# Altium footprint library BB.GW.001.00.00.PcbLib: 94 footprints (part 6 of 6)
Each footprint in its own frame and in the unit in brackets; x right, y up, seen from the top. Pads: shape width x height; smd on the part's side, far side on the other; paste and mask are expansions set on the pad; w line width, h text height; cw(c..) or ccw(c..) is an arc to the next point about the centre after c.
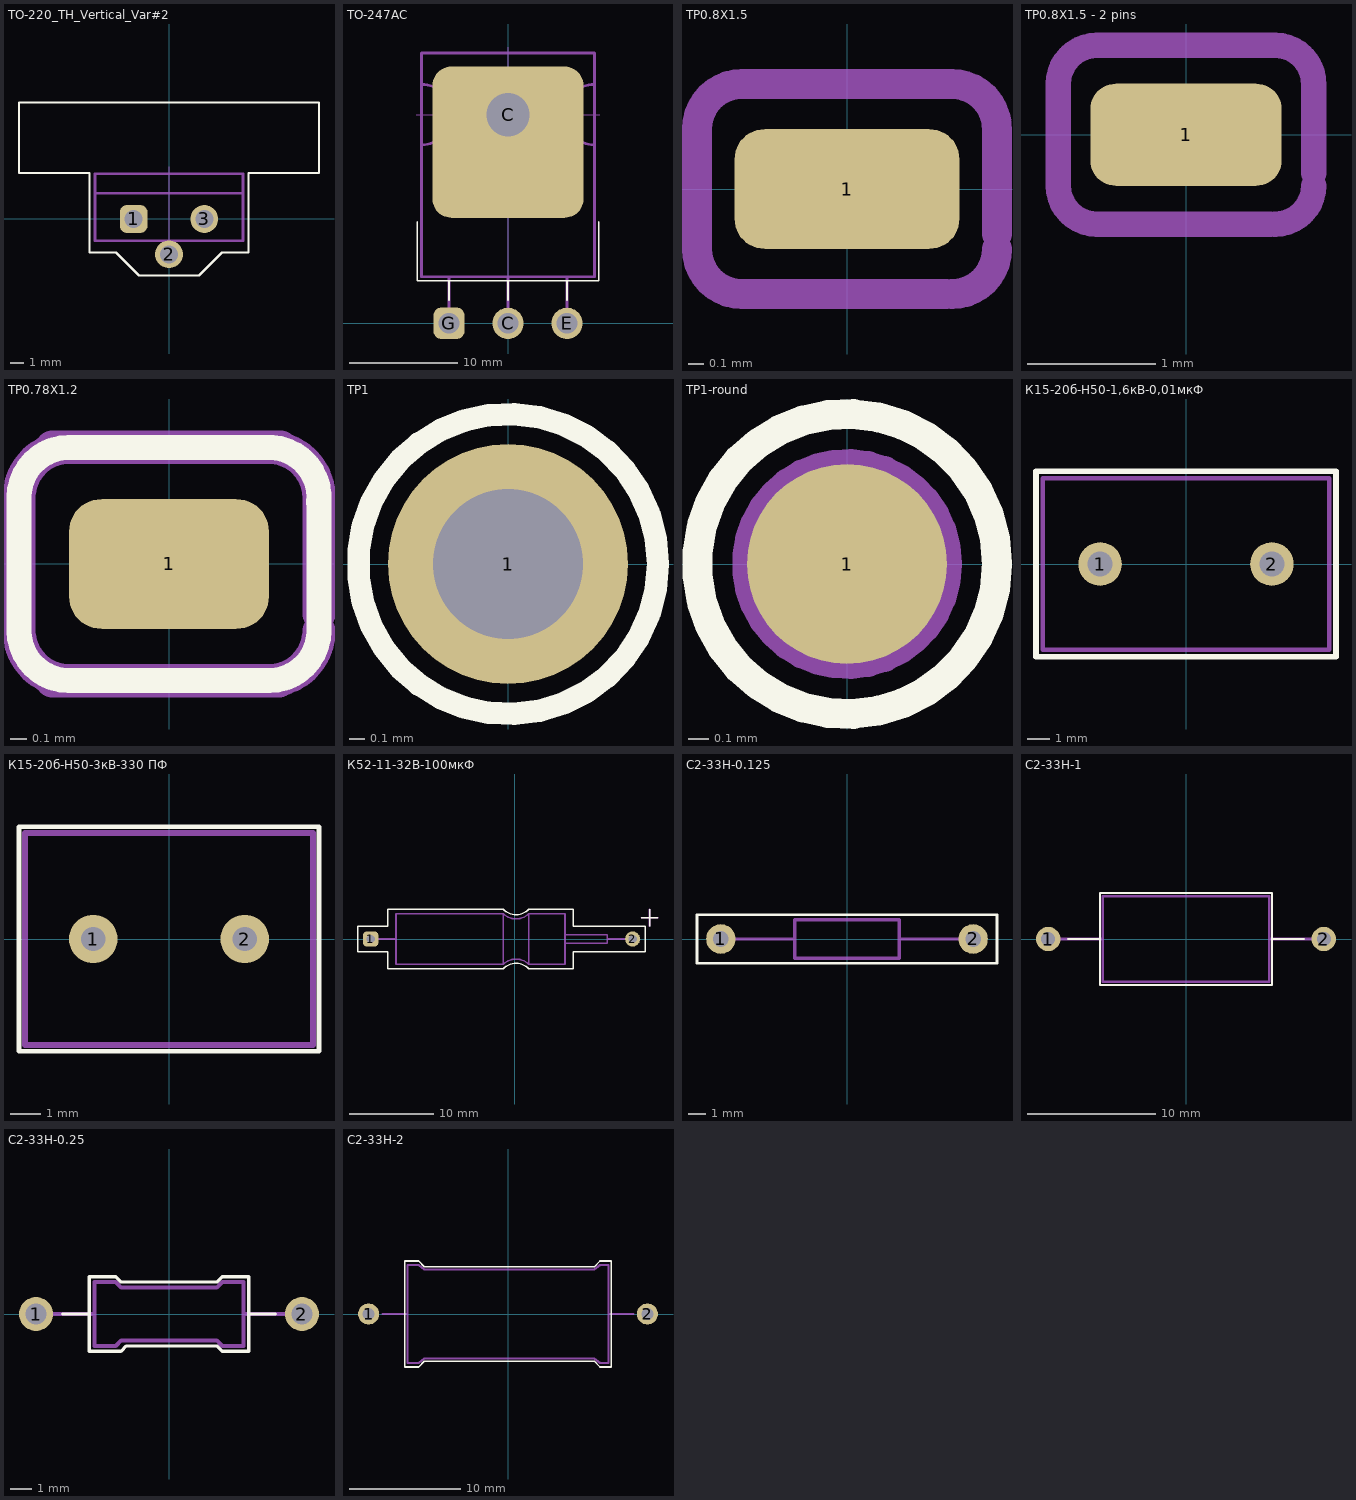
[diagram p5: the footprints below, top view; thin cyan lines are the x and y axes]

## TO-220_TH_Vertical_Var#2 [mm] "Transistor outline, TO-220, TH с разнесенными выводами, под установку на радиатор"
height 24
pads (3):
  rrect50% 2x2 hole 1.3: 1(-2.54,0)
  round 2 hole 1.3: 2(0,-2.54) 3(2.54,0)
Top Overlay:
  lines w0.15: -10.795,3.302 -10.795,8.382 10.795,8.382 10.795,3.302 5.715,3.302 5.715,-2.413 3.81,-2.413 2.159,-4.064 -2.159,-4.064 -3.81,-2.413 -5.715,-2.413 -5.715,3.302 -10.795,3.302
TopAsy:
  lines w0.025: 0,-2.08 0,3.762
  lines w0.2: -5.334,1.858 5.334,1.858 ; -5.334,-1.572 5.334,-1.572 5.334,3.258 -5.334,3.258 -5.334,-1.572
3D body "TO-220_TH_Vertical_var#2.STEP": height 20.74, standoff -3.3, extent -5.27,-2.794 5.27,3.226

## TO-247AC [mm]
height 5.4
pads (4):
  round 2.9 hole 1.9: C(0,0) E(5.46,0)
  rrect25% 14x14 hole 4 copper offset 0,-2.54: C(0,19.304)
  rrect50% 2.9x2.9 hole 1.9: G(-5.46,0)
Top Overlay:
  lines w0.15: -8.382,9.398 -8.382,3.937 8.382,3.937 8.382,9.398 ; -5.461,2.159 -5.461,3.937 ; -0.001,2.159 -0.001,3.937 ; 5.459,2.159 5.459,3.937
TopAsy:
  circle w0.254: c0,19.304 r1.905
  lines w0.025: -8.509,19.304 8.509,19.304 ; 0,-0.508 0,25.527
  lines w0.254: -8.001,16.51 ccw(c-8.001,19.304) -8.001,22.098 ; -5.46,0 -5.46,4.318 ; 0,0 0,4.318 ; 5.46,0 5.46,4.318 ; 8.001,16.51 cw(c8.001,19.304) 8.001,22.098 ; -8.001,4.318 -8.001,25.019 8.001,25.019 8.001,4.318 -8.001,4.318

## TP0.8X1.5 [mm]
pads (1):
  rrect50% 1.5x0.8 smd paste-25.4: 1(0,0)
TopAsy:
  lines w0.2: 0.66,-0.7 -0.7,-0.7 cw(c-0.7,-0.4) -1,-0.4 -1,0.4 cw(c-0.7,0.4) -0.7,0.7 0.67,0.7 ; 0.7,-0.7 ccw(c0.7,-0.4) 1,-0.4 ; 0.7,0.7 cw(c0.7,0.4) 1,0.39 ; 1,-0.3 1,0.4

## TP0.8X1.5 - 2 pins [mm]
pads (2):
  rrect50% 1.5x0.8 smd paste-25.4: 1(0,0)
  round 0 all layers, no hole: 2(-0.1,-1.6)
TopAsy:
  lines w0.2: 0.66,-0.7 -0.7,-0.7 cw(c-0.7,-0.4) -1,-0.4 -1,0.4 cw(c-0.7,0.4) -0.7,0.7 0.67,0.7 ; 0.7,-0.7 ccw(c0.7,-0.4) 1,-0.4 ; 0.7,0.7 cw(c0.7,0.4) 1,0.39 ; 1,-0.3 1,0.4

## TP0.78X1.2 [mm]
pads (1):
  rrect50% 1.2x0.78 smd paste-25.4: 1(0,0)
Top Overlay:
  lines w0.15: 0.57,-0.7 -0.6,-0.7 cw(c-0.6,-0.4) -0.9,-0.4 -0.9,0.4 cw(c-0.6,0.4) -0.6,0.7 0.6,0.7 ; 0.57,0.699 cw(c0.6,0.4) 0.898,0.369 ; 0.6,-0.7 ccw(c0.6,-0.4) 0.9,-0.4 0.9,0.4
TopAsy:
  lines w0.2: -0.7,-0.7 0.66,-0.7 ; -0.7,0.7 0.67,0.7 ; -0.6,-0.7 cw(c-0.6,-0.4) -0.9,-0.4 -0.9,0.4 cw(c-0.6,0.4) -0.6,0.7 ; 0.6,-0.7 ccw(c0.6,-0.4) 0.9,-0.4 ; 0.6,0.7 cw(c0.6,0.4) 0.9,0.39 ; 0.9,-0.3 0.9,0.4

## TP1 [mm] "Test point 1x1.6"
pads (1):
  round 1.6 hole 1 paste+0: 1(0,0)
Top Overlay:
  circle w0.15: c0,0 r1
TopAsy:
  circle w0.15: c0,0 r0.5

## TP1-round [mm] "Test point 1x1.6"
pads (1):
  round 1 smd paste+0: 1(0,0)
Top Overlay:
  circle w0.15: c0,0 r0.75
TopAsy:
  circle w0.15: c0,0 r0.5

## К15-20б-Н50-1,6кВ-0,01мкФ [mm] "HTD; body:12,5х9,8х7,5mm; Конденсаторы керамические округленные с однонаправленными выводами"
height 17.8
pads (2):
  round 1.9 hole 1.1 paste+0: 1(-3.75,0) 2(3.75,0)
Top Overlay:
  lines w0.254: -6.55,-4.05 -6.55,4.05 6.55,4.05 6.55,-4.05 -6.55,-4.05
TopAsy:
  lines w0.2: -6.25,-3.75 6.25,-3.75 6.25,3.75 -6.25,3.75 -6.25,-3.75
3D body "Конденсатор керамический _ К15-20б - Н50 - 1,6 кВ - 0,01 мкФ.stp": height 17.8, standoff -3, extent -6.25,-3.775 6.25,3.725

## К15-20б-Н50-3кВ-330 ПФ [mm] "HTD; body:9,5х7,5х7mm; Конденсаторы керамические округленные с однонаправленными выводами"
height 15.5
pads (2):
  round 1.6 hole 0.8 paste+0: 1(-2.5,0) 2(2.5,0)
Top Overlay:
  lines w0.15: -4.95,-3.7 4.95,-3.7 4.95,3.7 -4.95,3.7 -4.95,-3.7
TopAsy:
  lines w0.2: -4.75,-3.5 4.75,-3.5 4.75,3.5 -4.75,3.5 -4.75,-3.5
3D body "Конденсатор керамический _ К15-20б – Н50 – 3 кВ – 330 ПФ.stp": height 15.5, standoff -3, extent -4.775,-3.5 4.725,3.5

## К52-11-32В-100мкФ [mm] "THD; body:20.0х6.0мм. Конденсаторы объемно-пористые танталовые"
height 8.5
pads (2):
  rrect50% 1.8x1.8 hole 1 paste+0: 1(-17.025,0)
  round 1.8 hole 1 paste+0: 2(13.975,0)
Top Overlay:
  lines w0.15: 14.975,2.5 16.975,2.5 ; 15.975,1.5 15.975,3.5 ; -18.525,-1.5 -15.025,-1.5 -15.025,-3.5 -1.325,-3.5 cw(c0.175,-5) 1.675,-3.5 6.975,-3.5 6.975,-1.5 15.475,-1.5 15.475,1.5 6.975,1.5 6.975,3.5 1.675,3.5 cw(c0.175,5) -1.325,3.5 -15.025,3.5 -15.025,1.5 -18.525,1.5 -18.525,-1.5
TopAsy:
  lines w0.2: -17.025,0 -14.025,0 ; 5.975,-0.5 10.975,-0.5 10.975,0.5 5.975,0.5 ; 10.975,0 13.975,0 ; 14.975,2.5 16.975,2.5 ; 15.975,1.5 15.975,3.5 ; -1.325,-3 cw(c0.175,-4.5) 1.675,-3 ; -1.325,-3 -14.025,-3 -14.025,3 -1.325,3 ; -1.325,-3 -1.325,3 ; -1.325,3 ccw(c0.175,4.5) 1.675,3 ; 1.675,-3 1.675,3 ; 1.675,-3 5.975,-3 5.975,3 1.675,3
3D body "Конденсатор танталовый _ ОЖ0.464.234 ТУ.stp": height 5.28, standoff -8.72, extent -17.312,-2.994 14.286,3.006

## С2-33H-0.125 [mm] "HTD; body:6.0х2.2mm Резистор постоянный непроволочный"
height 4.2
pads (2):
  round 1.7 hole 0.9 paste+0: 1(-7.25,0) 2(7.25,0)
Top Overlay:
  lines w0.15: -8.625,-1.4 -8.625,1.4 8.625,1.4 8.625,-1.4 -8.625,-1.4
TopAsy:
  lines w0.2: -7.25,0 -3,0 ; 3,0 7.275,0 ; -3,-1.1 -3,1.1 3,1.1 3,-1.1 -3,-1.1
3D body "Резистор С2-33Н-0,125.stp": height 4.13, standoff -1.97, extent -7.55,-1.1 7.549,1.1

## С2-33H-1 [mm] "HTD; body:13.0х6.7mm Резистор постоянный непроволочный"
height 6.35
pads (2):
  round 1.9 hole 1.1 paste+0: 1(-10.75,0) 2(10.75,0)
Top Overlay:
  lines w0.15: -9.2,0 -6.7,0 ; 6.7,0 9.2,0 ; -6.7,-3.6 6.7,-3.6 6.7,3.6 -6.7,3.6 -6.7,-3.6
TopAsy:
  lines w0.2: -10.7,0 -6.5,0 ; 6.5,0 10.8,0 ; -6.5,-3.35 -6.5,3.35 6.5,3.35 6.5,-3.35 -6.5,-3.35
3D body "Резистор С2-33Н-1.stp": height 9.65, standoff -2.7, extent -11.149,-3.35 11.149,3.35

## С2-33Н-0.25 [mm] "Резистор в цилиндрическом корпусе с двумя осевыми выводами"
height 4
pads (2):
  round 1.6 hole 1: 1(-6.25,0) 2(6.25,0)
Top Overlay:
  lines w0.15: -5,0 -3.75,0 ; 3.75,0 5,0 ; -3.75,-1.75 -2.25,-1.75 -2,-1.5 2.25,-1.5 2.5,-1.75 3.75,-1.75 3.75,1.75 2.5,1.75 2.25,1.5 -2.25,1.5 -2.5,1.75 -3.75,1.75 -3.75,-1.75
TopAsy:
  lines w0.2: -6.25,0 -3.5,0 ; 3.5,0 6.25,0 ; -3.5,-1.5 -2.5,-1.5 -2.25,-1.25 2.25,-1.25 2.5,-1.5 3.5,-1.5 3.5,1.5 2.5,1.5 2.25,1.25 -2.25,1.25 -2.5,1.5 -3.5,1.5 -3.5,-1.5
3D body "S2-33N-025.STEP": height 4, standoff -1.5, extent -6.55,-1.5 6.55,1.5

## С2-33Н-2 [mm] "Резистор в цилиндрическом корпусе с двумя осевыми выводами"
height 9.8
pads (2):
  round 1.9 hole 1.1: 1(-12.5,0) 2(12.5,0)
Top Overlay:
  lines w0.15: -9.25,-4.75 -9.25,4.75 -8,4.75 -7.5,4.25 7.75,4.25 8.25,4.75 9.25,4.75 9.25,-4.5 9.25,-4.75 8.25,-4.75 7.75,-4.25 -7.5,-4.25 -8,-4.75 -9.25,-4.75
TopAsy:
  lines w0.2: -11.25,0 -9,0 ; 9,0 11.25,0 ; -9,-4.4 -9,4.4 -8,4.4 -7.5,4 7.75,4 8.25,4.4 9,4.4 9,-4.4 8.25,-4.4 7.75,-4 -7.5,-4 -8,-4.4 -9,-4.4
3D body "S2-33N-2.STEP": height 9.65, standoff -1.65, extent -12.9,-4.4 12.9,4.4